# Altium footprint library MergenElektronik_Diodes_SchottkyDiodes.PcbLib: 4 footprints
Each footprint in its own frame and in the unit in brackets; x right, y up, seen from the top. Pads: shape width x height; smd on the part's side, far side on the other; paste and mask are expansions set on the pad; w line width, h text height; cw(c..) or ccw(c..) is an arc to the next point about the centre after c.
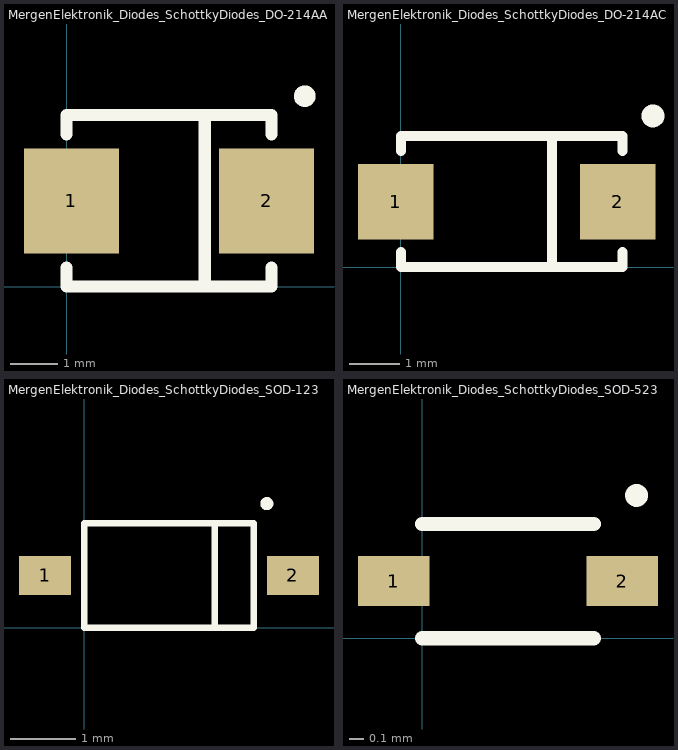
[diagram p0: the footprints below, top view; thin cyan lines are the x and y axes]

## MergenElektronik_Diodes_SchottkyDiodes_DO-214AA (SMB) [mm] "DO-214AA (SMB)"
pads (2):
  rect 2x2.2 smd: 1(0.1,1.8) 2(4.2,1.8)
Top Overlay:
  circle w0.254: c5,4 r0.1
  lines w0.254: 0,0.4 0,0 4.3,0 4.3,0.4 ; 0,3.2 0,3.6 4.3,3.6 4.3,3.2 ; 2.9,0 2.9,3.6
3D body "SMB.step": height 2.2, standoff 0, extent -0.448,-0.01 4.848,3.61

## MergenElektronik_Diodes_SchottkyDiodes_DO-214AC (SMA) [mm] "DO-214AC (SMA)"
pads (2):
  rect 1.5x1.5 smd: 1(-0.1,1.3) 2(4.3,1.3)
Top Overlay:
  circle w0.254: c5,3 r0.1
  lines w0.2: 0,0.3 0,0 4.4,0 4.4,0.3 ; 0,2.3 0,2.6 4.4,2.6 4.4,2.3 ; 3,0 3,2.6
3D body "SL310A-TP.step": height 2.44, standoff 0, extent -0.4,0.015 4.795,2.6

## MergenElektronik_Diodes_SchottkyDiodes_SOD-123 [mm] "SOD-123"
pads (2):
  rect 0.8x0.6 smd: 1(-0.6,0.8) 2(3.2,0.8)
Top Overlay:
  circle w0.1: c2.8,1.9 r0.05
  lines w0.1: 2,0 2,1.6 ; 0,0 2.6,0 2.6,1.6 0,1.6 0,0
3D body "MergenElektronik_Diodes_SchottkyDiodes_SOD-123.step": height 0.81, standoff 0, extent -0.625,0.125 3.225,1.475

## MergenElektronik_Diodes_SchottkyDiodes_SOD-523 [mm] "SOD-523"
pads (2):
  rect 0.5x0.35 smd: 1(-0.2,0.4) 2(1.4,0.4)
Top Overlay:
  circle w0.08: c1.5,1 r0.04
  lines w0.1: 0,0 1.2,0 ; 0,0.8 1.2,0.8
3D body "SOD-523_0P9X1P3_ONS.step": height 0.46, standoff 0, extent -0.251,-0.044 1.451,0.844